# EAGLE library part STM32L476RG (library Master)
STM32L476RG-LQFP64 Datasheet: http://www.st.com/content/ccc/resource/technical/document/datasheet/c5/ed/2f/60/aa/79/42/0b/DM00108832.pdf/files/DM00108832.pdf/jcr:content/translations/en.DM00108832.pdf Product page: http://www.st.com/en/microcontrollers/stm32l476rg.html
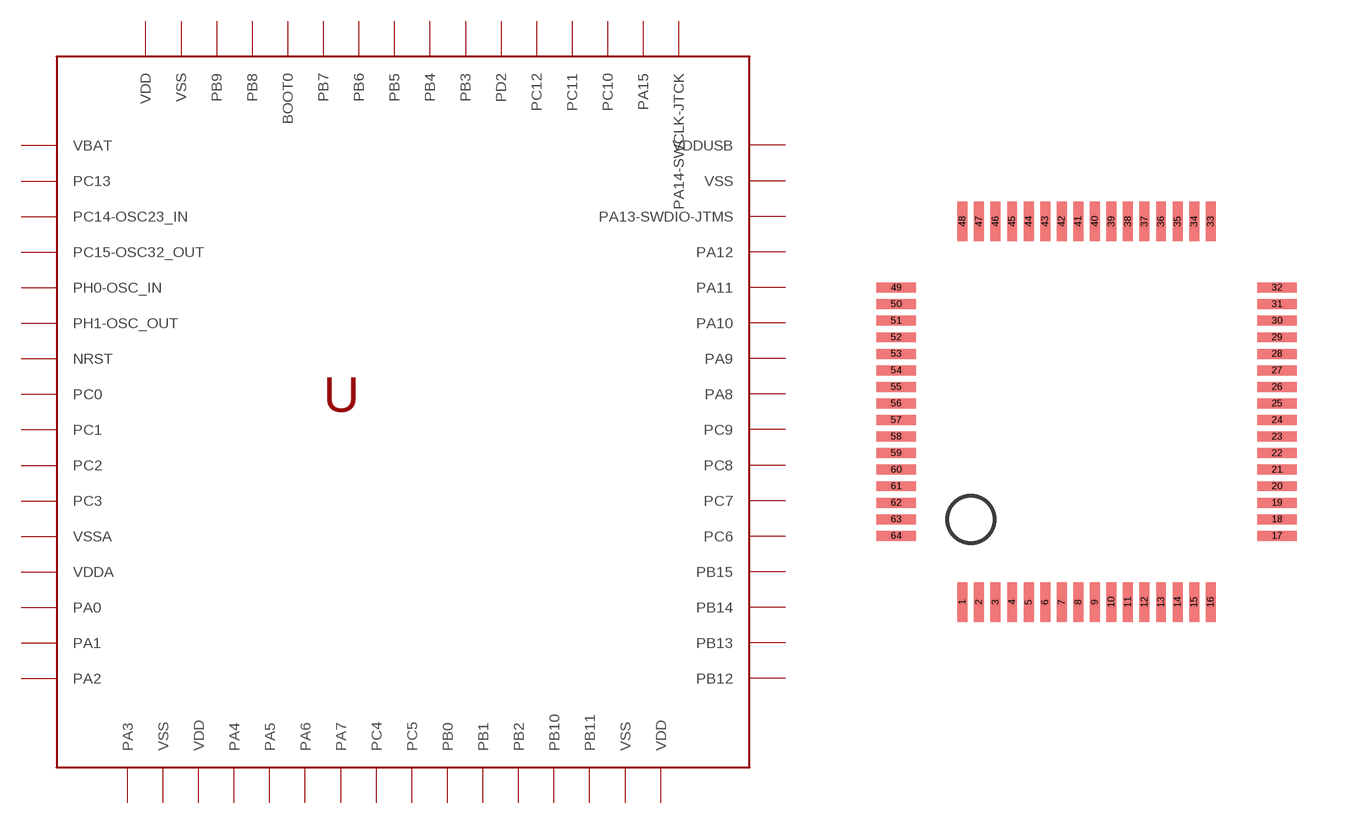
[diagram p5: symbol with the pads of LQFP64; footprint LQFP64]

Designator prefix U

## STM32L476RG  [LQFP64]
1  VBAT  pwr
2  PC13
3  PC14-OSC23_IN
4  PC15-OSC32_OUT
5  PH0-OSC_IN
6  PH1-OSC_OUT
7  NRST
8  PC0
9  PC1
10  PC2
11  PC3
12  VSSA  pwr
13  VDDA  pwr
14  PA0
15  PA1
16  PA2
17  PA3
18  VSS  pwr
19  VDD  pwr
20  PA4
21  PA5
22  PA6
23  PA7
24  PC4
25  PC5
26  PB0
27  PB1
28  PB2
29  PB10
30  PB11
31  VSS  pwr
32  VDD  pwr
33  PB12
34  PB13
35  PB14
36  PB15
37  PC6
38  PC7
39  PC8
40  PC9
41  PA8
42  PA9
43  PA10
44  PA11
45  PA12
46  PA13-SWDIO-JTMS
47  VSS  pwr
48  VDDUSB  pwr
49  PA14-SWCLK-JTCK
50  PA15
51  PC10
52  PC11
53  PC12
54  PD2
55  PB3
56  PB4
57  PB5
58  PB6
59  PB7
60  BOOT0
61  PB8
62  PB9
63  VSS  pwr
64  VDD  pwr

## Footprint LQFP64 (pad centres in mm)
LQFP64 - STM
smd 0.3 x 1.2: 1 -3.75,-5.5; 2 -3.25,-5.5; 3 -2.75,-5.5; 4 -2.25,-5.5; 5 -1.75,-5.5; 6 -1.25,-5.5; 7 -0.75,-5.5; 8 -0.25,-5.5; 9 0.25,-5.5; 10 0.75,-5.5; 11 1.25,-5.5; 12 1.75,-5.5; 13 2.25,-5.5; 14 2.75,-5.5; 15 3.25,-5.5; 16 3.75,-5.5; 33 3.75,6; 34 3.25,6; 35 2.75,6; 36 2.25,6; 37 1.75,6; 38 1.25,6; 39 0.75,6; 40 0.25,6; 41 -0.25,6; 42 -0.75,6; 43 -1.25,6; 44 -1.75,6; 45 -2.25,6; 46 -2.75,6; 47 -3.25,6; 48 -3.75,6
smd 1.2 x 0.3: 17 5.75,-3.5; 18 5.75,-3; 19 5.75,-2.5; 20 5.75,-2; 21 5.75,-1.5; 22 5.75,-1; 23 5.75,-0.5; 24 5.75,0; 25 5.75,0.5; 26 5.75,1; 27 5.75,1.5; 28 5.75,2; 29 5.75,2.5; 30 5.75,3; 31 5.75,3.5; 32 5.75,4; 49 -5.75,4; 50 -5.75,3.5; 51 -5.75,3; 52 -5.75,2.5; 53 -5.75,2; 54 -5.75,1.5; 55 -5.75,1; 56 -5.75,0.5; 57 -5.75,0; 58 -5.75,-0.5; 59 -5.75,-1; 60 -5.75,-1.5; 61 -5.75,-2; 62 -5.75,-2.5; 63 -5.75,-3; 64 -5.75,-3.5